# Altium schematic symbol library Schlib2.SchLib: 1 symbol
Pins are listed as number, name and electrical type; pins without a type are passive.

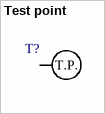
[diagram p0: symbol Test point]

## Test point
designator T?
footprint Testpoint
pins: 1 T.P.